# Altium schematic symbol library MC34063.SchLib: 1 symbol
Pins are listed as number, name and electrical type; pins without a type are passive.

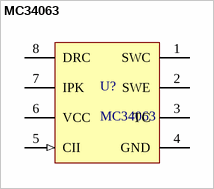
[diagram p0: symbol MC34063]

## MC34063
designator U?
footprint SO8-150
footprint SOIC-8_M
footprint SOIC-8-B
pins: 1 SWC (oc), 2 SWE (oe), 3 TC, 4 GND (power), 5 CII (in), 6 VCC (power), 7 IPK, 8 DRC (oc)